# Altium schematic symbol library SchemeOnly.SchLib: 2 symbols
Pins are listed as number, name and electrical type; pins without a type are passive.

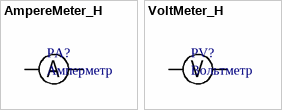
[diagram p0: symbols AmpereMeter_H to VoltMeter_H]

## AmpereMeter_H
designator PA?, comment Амперметр
pins: 0, 1
1 alternate drawing of the same symbol
text: А

## VoltMeter_H
designator PV?, comment Вольтметр
pins: 0, 1
1 alternate drawing of the same symbol
text: V